# Altium footprint library 74HC14BQQ100115.PcbLib: 1 footprints
Each footprint in its own frame and in the unit in brackets; x right, y up, seen from the top. Pads: shape width x height; smd on the part's side, far side on the other; paste and mask are expansions set on the pad; w line width, h text height; cw(c..) or ccw(c..) is an arc to the next point about the centre after c.
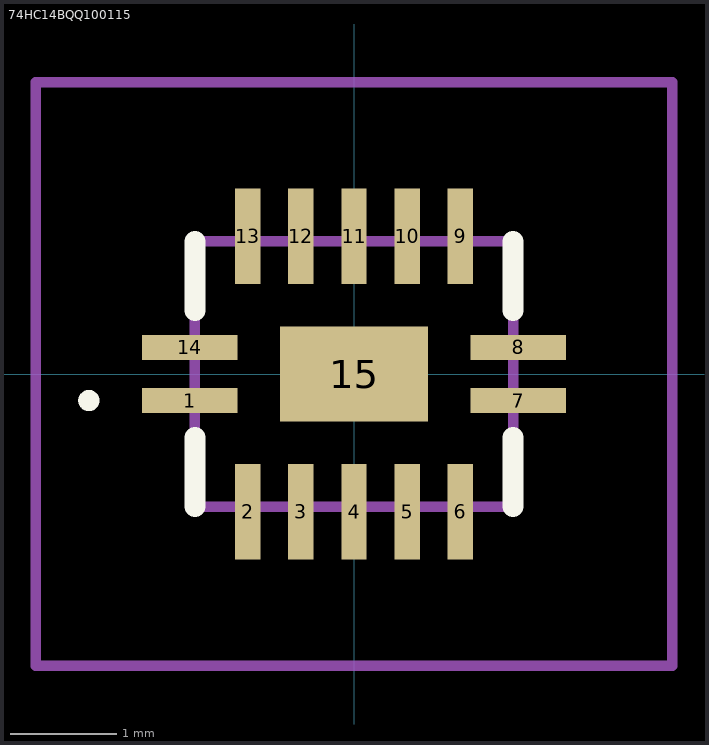
[diagram p0: the footprint, top view; thin cyan lines are the x and y axes]

## 74HC14BQQ100115 [mm]
pads (15):
  rect 0.9x0.24 smd: 1(-1.55,-0.25) 7(1.55,-0.25) 8(1.55,0.25) 14(-1.55,0.25)
  rect 0.24x0.9 smd: 2(-1,-1.3) 3(-0.5,-1.3) 4(0,-1.3) 5(0.5,-1.3) 6(1,-1.3) 9(1,1.3) 10(0.5,1.3) 11(0,1.3) 12(-0.5,1.3) 13(-1,1.3)
  rect 1.4x0.9 smd: 15(0,0)
Top Overlay:
  lines w0.1: -2.55,-0.25 -2.55,-0.25 ; -2.55,-0.25 ccw(c-2.5,-0.25) -2.45,-0.25 ; -2.55,-0.25 cw(c-2.5,-0.25) -2.45,-0.25 ; -2.45,-0.25 -2.45,-0.25
  lines w0.2: -1.5,-1.25 -1.5,-0.6 ; -1.5,0.6 -1.5,1.25 ; 1.5,-1.25 1.5,-0.6 ; 1.5,0.6 1.5,1.25
Mechanical 15:
  lines w0.1: -1.5,-1.25 1.5,-1.25 1.5,1.25 -1.5,1.25 -1.5,-1.25
Mechanical 20:
  lines w0.1: -3,-2.75 3,-2.75 3,2.75 -3,2.75 -3,-2.75